# Altium schematic symbol library REG1117_SOT.Schlib: 1 symbol
Pins are listed as number, name and electrical type; pins without a type are passive.

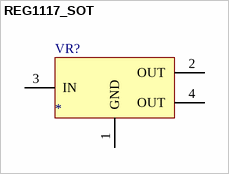
[diagram p0: symbol REG1117_SOT]

## REG1117_SOT
designator VR?
pins: 1 GND (power), 2 OUT (power), 3 IN (power), 4 OUT (power)